# Altium footprint library PcbLib1.PcbLib: 12 footprints
Each footprint in its own frame and in the unit in brackets; x right, y up, seen from the top. Pads: shape width x height; smd on the part's side, far side on the other; paste and mask are expansions set on the pad; w line width, h text height; cw(c..) or ccw(c..) is an arc to the next point about the centre after c.
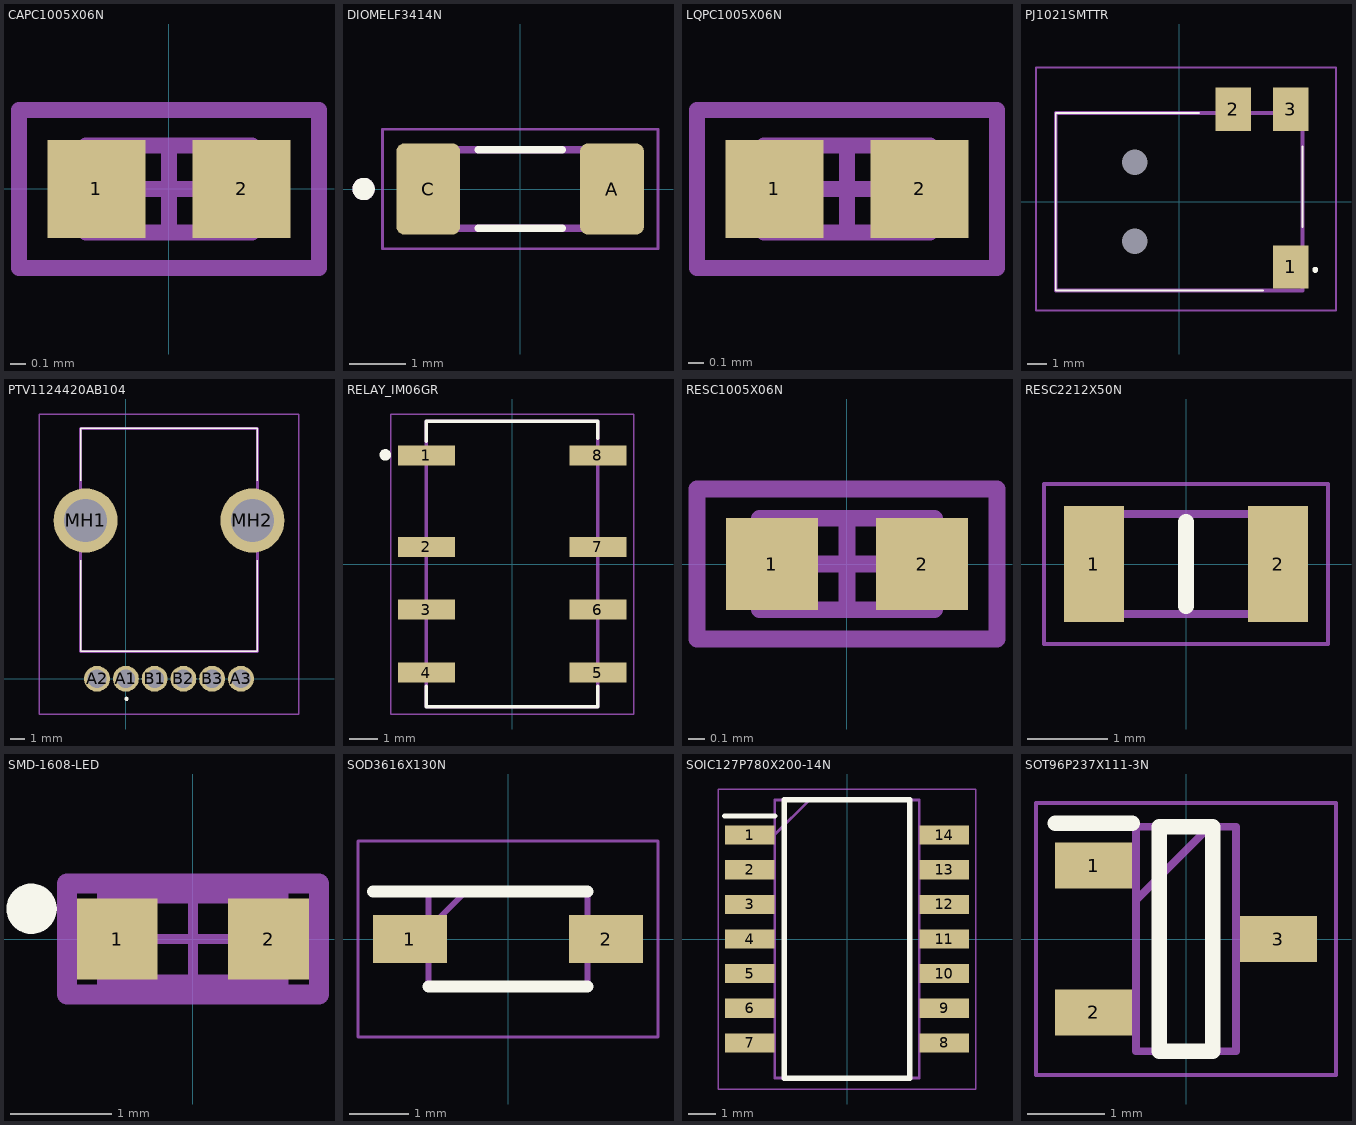
[diagram p0: the footprints below, top view; thin cyan lines are the x and y axes]

## CAPC1005X06N [mm] "Chip Capacitor, 2-Leads, Body 1,00x0,50mm, IPC Medium Density"
height 0.55
pads (2):
  rect 0.62x0.62 smd: 1(-0.46,0) 2(0.46,0)
Top Assembly:
  lines w0.1: -0.525,-0.275 0.525,-0.275 0.525,0.275 -0.525,0.275 -0.525,-0.275
Top Courtyard:
  lines w0.1: -0.275,0 0.275,0 ; 0,-0.275 0,0.275 ; -0.95,-0.5 0.95,-0.5 0.95,0.5 -0.95,0.5 -0.95,-0.5
Top Designator:
  text ".Designator" at -1.25,-0.083 h0.25
3D body "CAPC1005X06N.step": height 0.55, standoff 0, extent -0.525,-0.275 0.525,0.275

## DIOMELF3414N [mm]
pads (2):
  rrect25% 1.14x1.63 smd: A(1.64,0) C(-1.64,0)
Top Overlay:
  circle w0.2: c-2.795,0 r0.1
  lines w0.127: -0.75,-0.7 0.75,-0.7 ; -0.75,0.7 0.75,0.7
Mechanical 13:
  circle w0.2: c-2.795,0 r0.1
  lines w0.127: -1.7,-0.7 1.7,-0.7 1.7,0.7 -1.7,0.7 -1.7,-0.7
Mechanical 15:
  lines w0.05: -2.46,-1.065 2.46,-1.065 2.46,1.065 -2.46,1.065 -2.46,-1.065
3D body "FDLL4148.stp": height 1.44, standoff -0.06, extent -1.778,-0.75 1.822,0.75

## LQPC1005X06N [mm]
height 0.55
pads (2):
  rect 0.62x0.62 smd: 1(-3.254,-2.794) 2(-2.334,-2.794)
Top Assembly:
  lines w0.1: -3.319,-3.069 -3.319,-2.519 -2.269,-2.519 -2.269,-3.069 -3.319,-3.069
Top Courtyard:
  lines w0.1: -3.069,-2.794 -2.519,-2.794 ; -2.794,-3.069 -2.794,-2.519 ; -3.744,-3.294 -3.744,-2.294 -1.844,-2.294 -1.844,-3.294 -3.744,-3.294
Top Designator:
  text ".Designator" at -4.044,-2.877 h0.25
3D body "CAPC1005X06N.step": height 0.55, standoff 0, extent -3.319,-3.069 -2.269,-2.519

## PJ1021SMTTR [mm]
pads (5):
  rect 1.8x2.2 smd: 1(5.65,-3.3) 2(2.75,4.7) 3(5.65,4.7)
  round 0.65 hole 1.3 unplated: MH1(-2.25,-2) MH2(-2.25,2)
Top Overlay:
  lines w0.1: -6.25,-4.5 4.25,-4.5 -6.25,-4.5 ; -6.25,-4.5 -6.25,4.5 ; -6.25,-4.5 -6.25,4.5 ; -6.25,4.5 1,4.5 -6.25,4.5 ; 6.25,-1.27 6.25,2.794 6.25,-1.27
  lines w0.2: 6.9,-3.5 ccw(c6.9,-3.45) 6.9,-3.4 ; 6.9,-3.5 cw(c6.9,-3.45) 6.9,-3.4 ; 6.9,-3.5 ccw(c6.9,-3.45) 6.9,-3.4
Mechanical 15:
  lines w0.2: -6.25,-4.5 -6.25,4.5 6.25,4.5 6.25,-4.5 -6.25,-4.5
Top 3D Body:
  lines w0.1: -7.25,-5.5 -7.25,6.8 7.95,6.8 7.95,-5.5 -7.25,-5.5
3D body "PJ1-021-SMT-TR.stp": height 6.01, standoff -0.99, extent -6.123,-3.937 6.377,5.463

## PTV1124420AB104 [mm]
pads (8):
  round 1.8 hole 1.3: A1(0,0) A2(-2,0) A3(8,0) B1(2,0) B2(4,0) B3(6,0)
  round 4.455 hole 2.97: MH1(-2.8,11) MH2(8.8,11)
Top Overlay:
  lines w0.1: -3.15,1.9 9.15,1.9 ; -3.15,1.9 9.15,1.9 ; -3.15,1.9 -3.15,8.25 -3.15,1.9 ; -3.15,17.4 9.15,17.4 ; -3.15,17.4 9.15,17.4 ; -3.15,17.4 -3.15,13.75 -3.15,17.4 ; 9.15,1.9 9.15,8.25 9.15,1.9 ; 9.15,17.4 9.15,13.75 9.15,17.4
  lines w0.2: 0,-1.4 ccw(c0.05,-1.4) 0.1,-1.4 ; 0,-1.4 cw(c0.05,-1.4) 0.1,-1.4 ; 0,-1.4 ccw(c0.05,-1.4) 0.1,-1.4
Mechanical 15:
  lines w0.2: -3.15,1.9 9.15,1.9 9.15,17.4 -3.15,17.4 -3.15,1.9
Top 3D Body:
  lines w0.1: -6.027,-2.45 12.027,-2.45 12.027,18.4 -6.027,18.4 -6.027,-2.45
3D body "PTV112-4420A-B104.stp": height 20.6, standoff -5, extent -4.174,-0.549 10.185,17.4

## RELAY_IM06GR [mm]
pads (8):
  rect 2x0.7 smd: 1(-3,3.8) 2(-3,0.6) 3(-3,-1.6) 4(-3,-3.8) 5(3,-3.8) 6(3,-1.6) 7(3,0.6) 8(3,3.8)
Top Overlay:
  circle w0.2: c-4.44,3.82 r0.1
  lines w0.127: -3,-4.28 -3,-5 3,-5 3,-4.28 ; -3,4.29 -3,5 3,5 3,4.4
Mechanical 13:
  lines w0.127: -3,-5 3,-5 3,5 -3,5 -3,-5
Mechanical 15:
  lines w0.05: -4.25,-5.25 4.25,-5.25 4.25,5.25 -4.25,5.25 -4.25,-5.25
3D body "IM06GR.stp": height 5.65, standoff 0, extent -3.75,-5 3.75,5

## RESC1005X06N [mm] "Chip Resistor, 2-Leads, Body 1,00x0,50mm, IPC Medium Density"
height 0.55
pads (2):
  rect 0.55x0.55 smd: 1(-0.45,0) 2(0.45,0)
Top Assembly:
  lines w0.1: -0.525,-0.275 0.525,-0.275 0.525,0.275 -0.525,0.275 -0.525,-0.275
Top Courtyard:
  lines w0.1: -0.275,0 0.275,0 ; 0,-0.275 0,0.275 ; -0.9,-0.45 0.9,-0.45 0.9,0.45 -0.9,0.45 -0.9,-0.45
Top Designator:
  text ".Designator" at -1.25,-0.083 h0.25
3D body "RESC1005X06N.step": height 0.55, standoff 0, extent -0.525,-0.275 0.525,0.275

## RESC2212X50N [mm]
pads (2):
  rect 0.75x1.45 smd: 1(-1.15,0) 2(1.15,0)
Top Overlay:
  lines w0.2: 0,-0.525 0,0.525
Mechanical 15:
  lines w0.1: -1.075,-0.625 -1.075,0.625 1.075,0.625 1.075,-0.625 -1.075,-0.625
Top 3D Body:
  lines w0.05: -1.775,-1 -1.775,1 1.775,1 1.775,-1 -1.775,-1
3D body "NB12K00103JBB.stp": height 0.5, standoff 0, extent -1.075,-0.625 1.075,0.625

## SMD-1608-LED [mm]
pads (2):
  rect 0.8x0.8 smd paste+0 mask+0: 1(-0.75,0) 2(0.75,0)
Top Overlay:
  circle w0.25: c-1.6,0.3 r0.125
Top Component Center:
  lines w0.1: -0.5,0 0.5,0 ; 0,-0.5 0,0.5
Top 3D Body:
  lines w0.2: -0.85,-0.45 -0.85,0.45 0.85,0.45 0.85,-0.45 -0.85,-0.45
Top Assembly:
  lines w0.2: -1.25,-0.55 -1.25,0.55 1.25,0.55 1.25,-0.55 -1.25,-0.55
Top Courtyard:
  lines w0.2: -1.25,-0.55 -1.25,0.55 1.25,0.55 1.25,-0.55 -1.25,-0.55
3D body "Diode_Lite-On_LTST-C190GKT_eec.STEP": height 0.25, standoff 0, extent -1.25,-0.55 1.25,0.55

## SOD3616X130N [mm]
pads (2):
  rect 1.25x0.8 smd: 1(-1.65,0) 2(1.65,0)
Top Overlay:
  lines w0.2: -2.275,0.8 1.338,0.8 ; -1.338,-0.8 1.338,-0.8
Mechanical 15:
  lines w0.1: -1.338,0.175 -0.712,0.8 ; -1.338,-0.8 1.338,-0.8 1.338,0.8 -1.338,0.8 -1.338,-0.8
Top 3D Body:
  lines w0.05: -2.525,-1.65 2.525,-1.65 2.525,1.65 -2.525,1.65 -2.525,-1.65
3D body "BZT52-C5V1-QX.stp": height 1.19, standoff -0.01, extent -1.673,-0.838 1.927,0.762

## SOIC127P780X200-14N [mm]
pads (14):
  rect 1.825x0.7 smd: 1(-3.562,3.81) 2(-3.562,2.54) 3(-3.562,1.27) 4(-3.562,0) 5(-3.562,-1.27) 6(-3.562,-2.54) 7(-3.562,-3.81) 8(3.562,-3.81) 9(3.562,-2.54) 10(3.562,-1.27) 11(3.562,0) 12(3.562,1.27) 13(3.562,2.54) 14(3.562,3.81)
Top Overlay:
  lines w0.2: -4.475,4.51 -2.65,4.51 ; -2.3,-5.1 2.3,-5.1 2.3,5.1 -2.3,5.1 -2.3,-5.1
Mechanical 15:
  lines w0.1: -2.65,3.83 -1.38,5.1 ; -2.65,-5.1 2.65,-5.1 2.65,5.1 -2.65,5.1 -2.65,-5.1
Top 3D Body:
  lines w0.05: -4.725,-5.5 4.725,-5.5 4.725,5.5 -4.725,5.5 -4.725,-5.5
3D body "LM324NSR.stp": height 2, standoff 0, extent -3.9,-5.1 3.9,5.1

## SOT96P237X111-3N [mm]
pads (3):
  rect 1x0.6 smd: 1(-1.2,0.955) 2(-1.2,-0.955) 3(1.2,0)
Top Overlay:
  lines w0.2: -1.7,1.505 -0.7,1.505 ; -0.35,-1.46 0.35,-1.46 0.35,1.46 -0.35,1.46 -0.35,-1.46
Mechanical 15:
  lines w0.1: -0.65,0.505 0.305,1.46 ; -0.65,-1.46 0.65,-1.46 0.65,1.46 -0.65,1.46 -0.65,-1.46
Top 3D Body:
  lines w0.05: -1.95,-1.77 1.95,-1.77 1.95,1.77 -1.95,1.77 -1.95,-1.77
3D body "BCW66GLT3G.stp": height 1.11, standoff 0, extent -1.185,-1.46 1.185,1.46